# EAGLE library part GY-521 (library _modules)
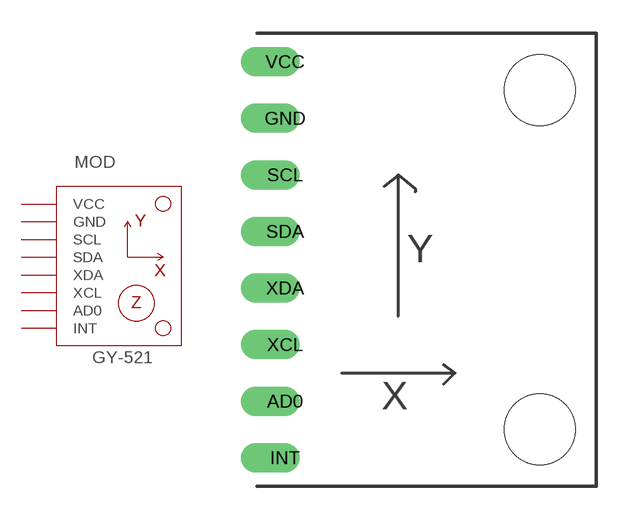
[diagram p0: symbol with the pads of GY-521; footprint GY-521]

Designator prefix MOD

## GY-521  [GY-521]
AD0  AD0
GND  GND
INT  INT
SCL  SCL
SDA  SDA
VCC  VCC
XCL  XCL
XDA  XDA

## Footprint GY-521 (pad centres in mm)
drill 0.813 offset: AD0 0,-15.24; GND 0,-2.54; INT 0,-17.78; SCL 0,-5.08; SDA 0,-7.62; VCC 0,0; XCL 0,-12.7; XDA 0,-10.16
hole 3.175 at 11.43,-16.51
hole 3.175 at 11.43,-1.27